# EAGLE library part NRF9160 (library SiP_Nordic)
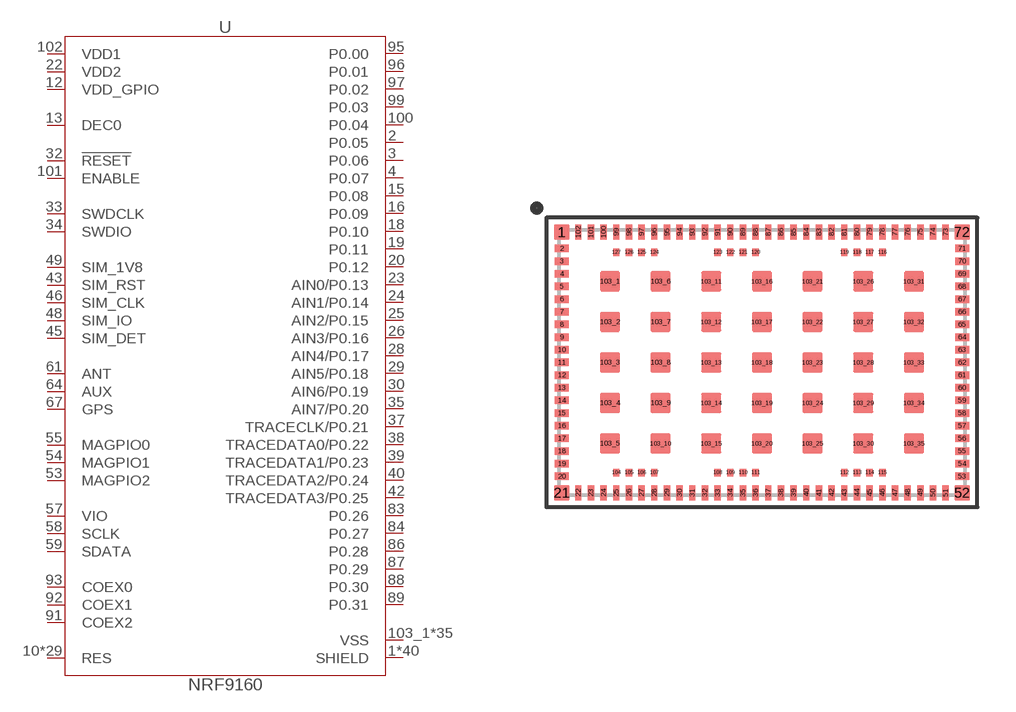
[diagram p0: symbol with the pads of NRF9160; footprint NRF9160]

Designator prefix U

## NRF9160  [NRF9160]
1  SHIELD  pwr
2  P0.05
3  P0.06
4  P0.07
5  SHIELD  pwr
6  SHIELD  pwr
7  SHIELD  pwr
8  SHIELD  pwr
9  SHIELD  pwr
10  RES  nc
11  SHIELD  pwr
12  VDD_GPIO  pwr
13  DEC0  pas
14  SHIELD  pwr
15  P0.08
16  P0.09
17  SHIELD  pwr
18  P0.10
19  P0.11
20  P0.12
21  SHIELD  pwr
22  VDD2  pwr
23  AIN0/P0.13
24  AIN1/P0.14
25  AIN2/P0.15
26  AIN3/P0.16
27  SHIELD  pwr
28  AIN4/P0.17
29  AIN5/P0.18
30  AIN6/P0.19
31  SHIELD  pwr
32  !RESET  in
33  SWDCLK  in
34  SWDIO
35  AIN7/P0.20
36  SHIELD  pwr
37  TRACECLK/P0.21
38  TRACEDATA0/P0.22
39  TRACEDATA1/P0.23
40  TRACEDATA2/P0.24
41  SHIELD  pwr
42  TRACEDATA3/P0.25
43  SIM_RST  out
44  SHIELD  pwr
45  SIM_DET  nc
46  SIM_CLK  out
47  SHIELD  pwr
48  SIM_IO
49  SIM_1V8  pas
50  SHIELD  pwr
51  RES  nc
52  SHIELD  pwr
53  MAGPIO2
54  MAGPIO1
55  MAGPIO0
56  SHIELD  pwr
57  VIO  pas
58  SCLK  out
59  SDATA
60  SHIELD  pwr
61  ANT  in
62  SHIELD  pwr
63  SHIELD  pwr
64  AUX  in
65  SHIELD  pwr
66  SHIELD  pwr
67  GPS  in
68  SHIELD  pwr
69  SHIELD  pwr
70  RES  nc
71  RES  nc
72  SHIELD  pwr
73  RES  nc
74  SHIELD  pwr
75  SHIELD  pwr
76  SHIELD  pwr
77  SHIELD  pwr
78  SHIELD  pwr
79  SHIELD  pwr
80  SHIELD  pwr
81  SHIELD  pwr
82  SHIELD  pwr
83  P0.26
84  P0.27
85  SHIELD  pwr
86  P0.28
87  P0.29
88  P0.30
89  P0.31
90  SHIELD  pwr
91  COEX2
92  COEX1
93  COEX0
94  SHIELD  pwr
95  P0.00
96  P0.01
97  P0.02
98  SHIELD  pwr
99  P0.03
100  P0.04
101  ENABLE  in
102  VDD1  pwr
103_1  VSS  pwr
103_2  VSS  pwr
103_3  VSS  pwr
103_4  VSS  pwr
103_5  VSS  pwr
103_6  VSS  pwr
103_7  VSS  pwr
103_8  VSS  pwr
103_9  VSS  pwr
103_10  VSS  pwr
103_11  VSS  pwr
103_12  VSS  pwr
103_13  VSS  pwr
103_14  VSS  pwr
103_15  VSS  pwr
103_16  VSS  pwr
103_17  VSS  pwr
103_18  VSS  pwr
103_19  VSS  pwr
103_20  VSS  pwr
103_21  VSS  pwr
103_22  VSS  pwr
103_23  VSS  pwr
103_24  VSS  pwr
103_25  VSS  pwr
103_26  VSS  pwr
103_27  VSS  pwr
103_28  VSS  pwr
103_29  VSS  pwr
103_30  VSS  pwr
103_31  VSS  pwr
103_32  VSS  pwr
103_33  VSS  pwr
103_34  VSS  pwr
103_35  VSS  pwr
104  RES  nc
105  RES  nc
106  RES  nc
107  RES  nc
108  RES  nc
109  RES  nc
110  RES  nc
111  RES  nc
112  RES  nc
113  RES  nc
114  RES  nc
115  RES  nc
116  RES  nc
117  RES  nc
118  RES  nc
119  RES  nc
120  RES  nc
121  RES  nc
122  RES  nc
123  RES  nc
124  RES  nc
125  RES  nc
126  RES  nc
127  RES  nc

## Footprint NRF9160 (pad centres in mm)
smd 0.6 x 0.6: 1 -7.9,5.15; 21 -7.9,-5.15; 52 7.9,-5.15; 72 7.9,5.15
smd 0.6 x 0.3: 2 -7.9,4.5; 3 -7.9,4; 4 -7.9,3.5; 5 -7.9,3; 6 -7.9,2.5; 7 -7.9,2; 8 -7.9,1.5; 9 -7.9,1; 10 -7.9,0.5; 11 -7.9,0; 12 -7.9,-0.5; 13 -7.9,-1; 14 -7.9,-1.5; 15 -7.9,-2; 16 -7.9,-2.5; 17 -7.9,-3; 18 -7.9,-3.5; 19 -7.9,-4; 20 -7.9,-4.5; 53 7.9,-4.5; 54 7.9,-4; 55 7.9,-3.5; 56 7.9,-3; 57 7.9,-2.5; 58 7.9,-2; 59 7.9,-1.5; 60 7.9,-1; 61 7.9,-0.5; 62 7.9,0; 63 7.9,0.5; 64 7.9,1; 65 7.9,1.5; 66 7.9,2; 67 7.9,2.5; 68 7.9,3; 69 7.9,3.5; 70 7.9,4; 71 7.9,4.5
smd 0.3 x 0.6: 22 -7.25,-5.15; 23 -6.75,-5.15; 24 -6.25,-5.15; 25 -5.75,-5.15; 26 -5.25,-5.15; 27 -4.75,-5.15; 28 -4.25,-5.15; 29 -3.75,-5.15; 30 -3.25,-5.15; 31 -2.75,-5.15; 32 -2.25,-5.15; 33 -1.75,-5.15; 34 -1.25,-5.15; 35 -0.75,-5.15; 36 -0.25,-5.15; 37 0.25,-5.15; 38 0.75,-5.15; 39 1.25,-5.15; 40 1.75,-5.15; 41 2.25,-5.15; 42 2.75,-5.15; 43 3.25,-5.15; 44 3.75,-5.15; 45 4.25,-5.15; 46 4.75,-5.15; 47 5.25,-5.15; 48 5.75,-5.15; 49 6.25,-5.15; 50 6.75,-5.15; 51 7.25,-5.15; 73 7.25,5.15; 74 6.75,5.15; 75 6.25,5.15; 76 5.75,5.15; 77 5.25,5.15; 78 4.75,5.15; 79 4.25,5.15; 80 3.75,5.15; 81 3.25,5.15; 82 2.75,5.15; 83 2.25,5.15; 84 1.75,5.15; 85 1.25,5.15; 86 0.75,5.15; 87 0.25,5.15; 88 -0.25,5.15; 89 -0.75,5.15; 90 -1.25,5.15; 91 -1.75,5.15; 92 -2.25,5.15; 93 -2.75,5.15; 94 -3.25,5.15; 95 -3.75,5.15; 96 -4.25,5.15; 97 -4.75,5.15; 98 -5.25,5.15; 99 -5.75,5.15; 100 -6.25,5.15; 101 -6.75,5.15; 102 -7.25,5.15
smd 0.8 x 0.8: 103_1 -6,3.2; 103_2 -6,1.6; 103_3 -6,0; 103_4 -6,-1.6; 103_5 -6,-3.2; 103_6 -4,3.2; 103_7 -4,1.6; 103_8 -4,0; 103_9 -4,-1.6; 103_10 -4,-3.2; 103_11 -2,3.2; 103_12 -2,1.6; 103_13 -2,0; 103_14 -2,-1.6; 103_15 -2,-3.2; 103_16 0,3.2; 103_17 0,1.6; 103_18 0,0; 103_19 0,-1.6; 103_20 0,-3.2; 103_21 2,3.2; 103_22 2,1.6; 103_23 2,0; 103_24 2,-1.6; 103_25 2,-3.2; 103_26 4,3.2; 103_27 4,1.6; 103_28 4,0; 103_29 4,-1.6; 103_30 4,-3.2; 103_31 6,3.2; 103_32 6,1.6; 103_33 6,0; 103_34 6,-1.6; 103_35 6,-3.2
smd 0.3 x 0.3: 104 -5.75,-4.35; 105 -5.25,-4.35; 106 -4.75,-4.35; 107 -4.25,-4.35; 108 -1.75,-4.35; 109 -1.25,-4.35; 110 -0.75,-4.35; 111 -0.25,-4.35; 112 3.25,-4.35; 113 3.75,-4.35; 114 4.25,-4.35; 115 4.75,-4.35; 116 4.75,4.35; 117 4.25,4.35; 118 3.75,4.35; 119 3.25,4.35; 120 -0.25,4.35; 121 -0.75,4.35; 122 -1.25,4.35; 123 -1.75,4.35; 124 -4.25,4.35; 125 -4.75,4.35; 126 -5.25,4.35; 127 -5.75,4.35